# Altium schematic symbol library OpAmps.SchLib: 5 symbols
Pins are listed as number, name and electrical type; pins without a type are passive.

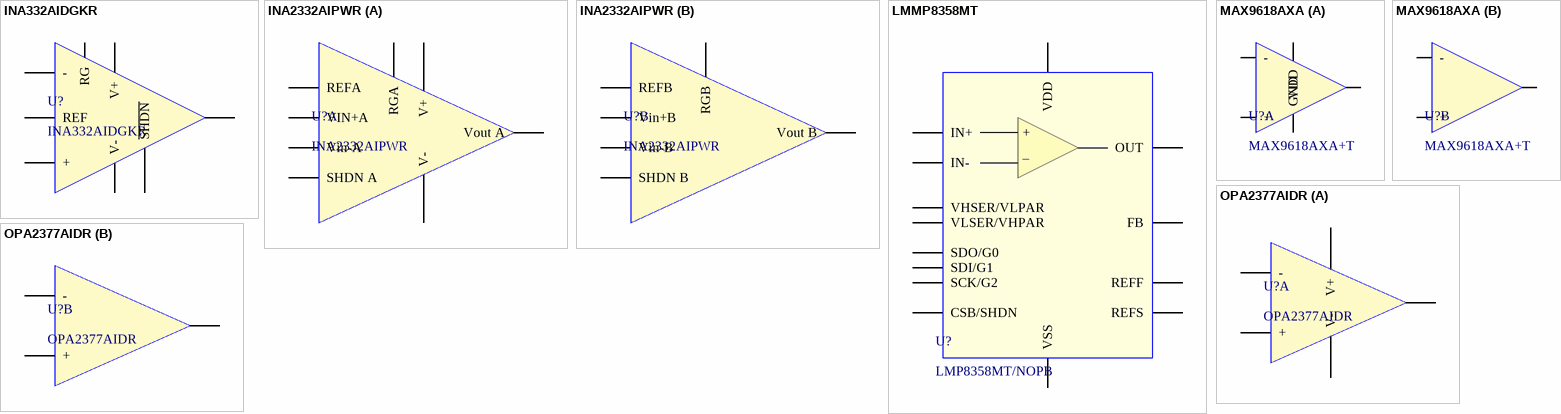
[diagram p0: symbols INA332AIDGKR to OPA2377AIDR]

## INA332AIDGKR
designator U?
Instrumentation Amplifier - 1 Channel; MFG: TI; LOAD: NL; GBP: 2MHz; VMAX: 5.5v; SINGLE_SUPPLY: TRUE; MFG_PN: INA332AIDGKR
footprint VSSOP8 (3.1x3.1mm)
pins: 1 RG, 2 -, 3 +, 4 V-, 5 REF, 6 OUT, 7 V+, 8 ~{SHDN}

## INA2332AIPWR
designator U?
Instrumentation Amplifier - 2 Channel; MFG: TI; CHANNELS: 2; GBP: 2MHz; VMAX: 5.5v; LOAD: NL; MFG_PN: INA2332AIPWR
footprint TSSOP14 (0.65mm Pitch)
part A pins: 1 RGA, 2 Vin-A, 3 VIN+A, 4 V-, 11 V+, 12 REFA, 13 Vout A, 14 SHDN A
part B pins: 5 Vin+B, 6 Vin-B, 7 RGB, 8 SHDN B, 9 Vout B, 10 REFB

## LMMP8358MT
designator U?, comment LMP8358MT/NOPB
Instrumentation Amplifier - 1 Channel - PGA (SPI); LOAD: NL; MFG: TI; GBP: 240MHz; Ibias: 2nA; Vos: 10uV; VMAX: 5.5v; VMIN: 2.7v; MFG_PN: LMP8358MT/NOPB
footprint TSSOP14 (0.65mm Pitch)
pins: 1 IN+, 2 IN-, 3 REFS, 4 REFF, 5 FB, 6 OUT, 7 VDD, 8 VHSER/VLPAR, 9 VSS, 10 VLSER/VHPAR, 11 CSB/SHDN, 12 SCK/G2, 13 SDI/G1, 14 SDO/G0
text: +; _

## MAX9618AXA
designator U?, comment MAX9618AXA+T
Op Amp - 2-Channel Zero Drift; LOAD: NL; MFG: MAXIM; GBP: 1.5MHz; VCHANNELS: 2; MFG_PN: MAX9618AXA+T
footprint SC70-8
part A pins: 1 OUTA, 2 -, 3 +, 4 GND, 8 VDD
part B pins: 5 +, 6 -, 7 OUT

## OPA2377AIDR
designator U?
OpAmp - 2 Channel; LOAD: NL; MFG: TI; CHANNELS: 2; GBP: 5MHz; SINGLE_SUPPLY: TRUE; VMAX: 5.5v; OFFSET_VOLTAGE: 1mV; MFG_PN: OPA2377AIDR
footprint SOIC-8
part A pins: 1 OUTA, 2 -, 3 +, 4 V-, 8 V+
part B pins: 5 +, 6 -, 7 OUTB